# EAGLE library part TPS5430 (library alvie)
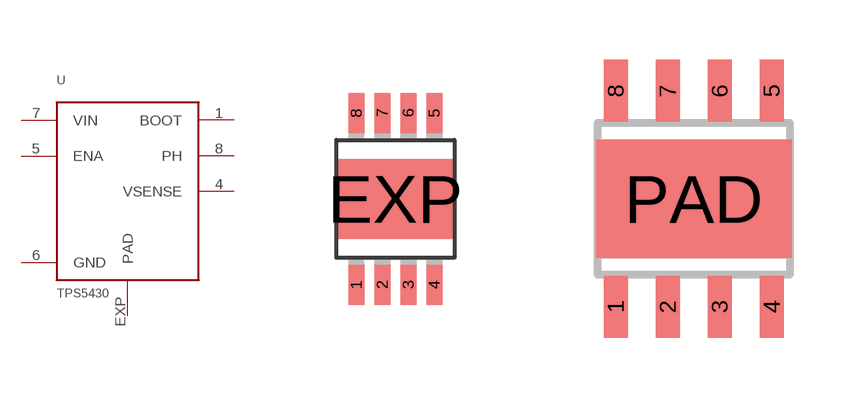
[diagram p46: symbol with the pads of HTSSOP8; footprints HTSSOP8, POWERPAD-SOIC8]

Designator prefix -

## TPS5430U  [HTSSOP8]
1  BOOT  pas
4  VSENSE  pas
5  ENA  in
6  GND  pwr
7  VIN  pwr
8  PH  pas
EXP  PAD  pwr

## TPS5430DDA  [POWERPAD-SOIC8]
1  BOOT  pas
4  VSENSE  pas
5  ENA  in
6  GND  pwr
7  VIN  pwr
8  PH  pas
PAD  PAD  pwr

## Footprint HTSSOP8 (pad centres in mm)
smd 0.4 x 1: 1 -0.975,-2.15; 2 -0.325,-2.15; 3 0.325,-2.15; 4 0.975,-2.15; 5 0.975,2.15; 6 0.325,2.15; 7 -0.325,2.15; 8 -0.975,2.15
smd 3 x 2: EXP 0,0

## Footprint POWERPAD-SOIC8 (pad centres in mm)
smd 0.6 x 1.55: 1 -1.95,-2.7; 2 -0.65,-2.7; 3 0.65,-2.7; 4 1.95,-2.7; 5 1.95,2.7; 6 0.65,2.7; 7 -0.65,2.7; 8 -1.95,2.7
smd 4.9 x 2.95: PAD 0,0